# Altium footprint library GCT_USB4085-GF-A_MN.PcbLib: 1 footprints
Each footprint in its own frame and in the unit in brackets; x right, y up, seen from the top. Pads: shape width x height; smd on the part's side, far side on the other; paste and mask are expansions set on the pad; w line width, h text height; cw(c..) or ccw(c..) is an arc to the next point about the centre after c.
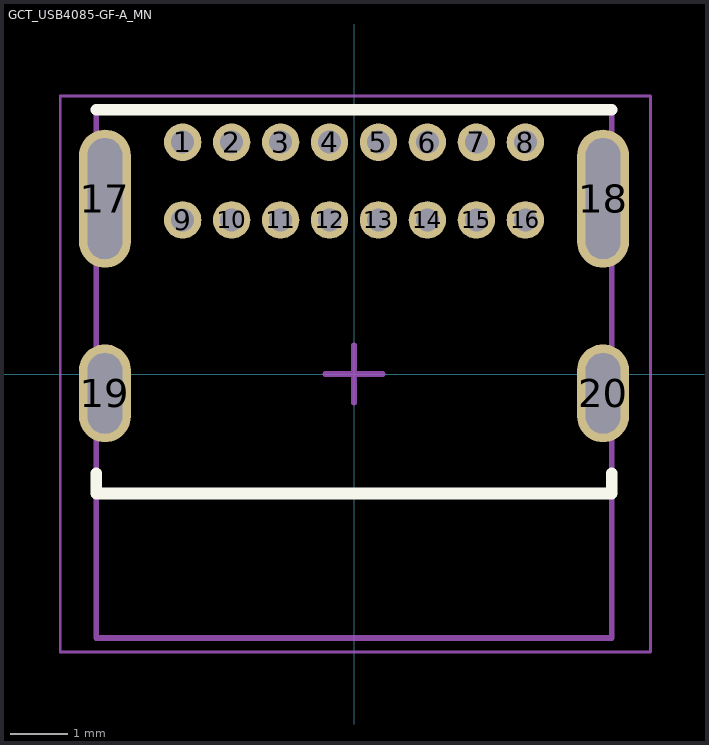
[diagram p0: the footprint, top view; thin cyan lines are the x and y axes]

## GCT_USB4085-GF-A_MN [mm]
pads (20):
  round 0.65 hole 0.4: 1(-2.975,4.025) 2(-2.125,4.025) 3(-1.275,4.025) 4(-0.425,4.025) 5(0.425,4.025) 6(1.275,4.025) 7(2.125,4.025) 8(2.975,4.025) 9(-2.975,2.675) 10(-2.125,2.675) 11(-1.275,2.675) 12(-0.425,2.675) 13(0.425,2.675) 14(1.275,2.675) 15(2.125,2.675) 16(2.975,2.675)
  oval 0.9x2.4 hole 0.6 slot 2.1 at 90 deg: 17(-4.325,3.045) 18(4.325,3.045)
  oval 0.9x1.7 hole 0.6 slot 1.4 at 90 deg: 19(-4.325,-0.335) 20(4.325,-0.335)
Top Overlay:
  lines w0.2: -4.475,-1.725 -4.475,-2.075 4.475,-2.075 4.475,-1.725 ; -4.475,4.585 4.475,4.585
Mechanical 13:
  lines w0.1: -4.475,-4.585 4.475,-4.585 4.475,4.585 -4.475,4.585 -4.475,-4.585
Mechanical 15:
  lines w0.05: -5.1,-4.825 5.15,-4.825 5.15,4.825 -5.1,4.825 -5.1,-4.825
  lines w0.1: -0.5,0 0.5,0 ; 0,-0.5 0,0.5
3D body "USB4085-03-A_revA.STEP": height 3.46, standoff -2.1, extent -4.515,-4.564 4.515,4.606